# Altium schematic symbol library WCAP-AI3H.SchLib: 39 symbols
Pins are listed as number, name and electrical type; pins without a type are passive.

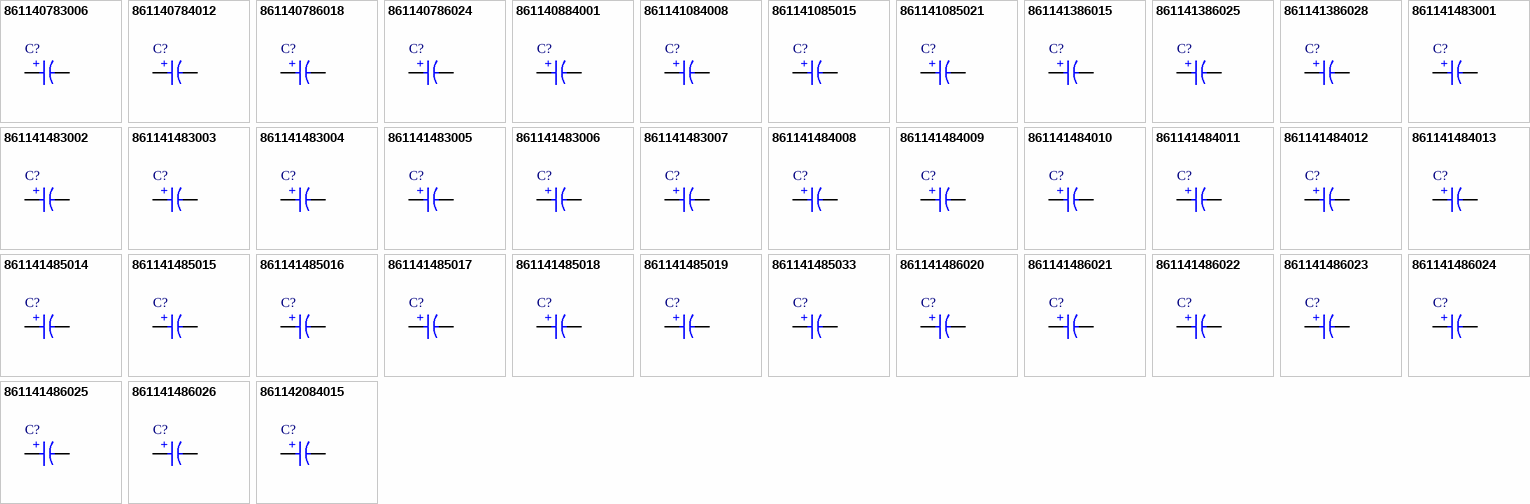
[diagram p0: symbols 861140783006 to 861142084015]

## 861140783006
designator C?, comment 2200uF  (value not drawn)
WCAP-AI3H Aluminum Electrolytic Capacitor, THT, 22mm x 35mm, 2200uF, 63V; Manufacturer Part Number: 861140783006; Manufacturer: Wurth Elektronik; Dissipation Factor: 20%; Endurance: 3000h; Leakage Current: 1117uA; Ripple Current: 1830mA; Category: Aluminum Electrolytic Capacitors; Match Code: WCAP-AI3H; ComponentLink1Description: Website Link; ComponentLink1URL: https://www.we-online.com; ComponentLink2Description: Datasheet Link; ComponentLink2URL: https://www.we-online.com/components/products/datasheet/861140783006; Mount: Through Hole; Operating Temperature Min: -40degC; Operating Temperature Max: 105degC; Packaging: Tray; Height: 35mm; Diameter: 22mm; Capacitance: 2200uF; Lead Pitch: 10mm; Rated Voltage (DC): 63V
footprint WCAP-AI3H_D22H35
simulation model 861140783006_2.2mF
pins: 1 P, 2 N
text: +

## 861140784012
designator C?, comment 3300uF  (value not drawn)
WCAP-AI3H Aluminum Electrolytic Capacitor, THT, 25mm x 35mm, 3300uF, 63V; Manufacturer Part Number: 861140784012; Manufacturer: Wurth Elektronik; Dissipation Factor: 20%; Endurance: 3000h; Leakage Current: 1368uA; Ripple Current: 2330mA; Category: Aluminum Electrolytic Capacitors; Match Code: WCAP-AI3H; ComponentLink1Description: Website Link; ComponentLink1URL: https://www.we-online.com; ComponentLink2Description: Datasheet Link; ComponentLink2URL: https://www.we-online.com/components/products/datasheet/861140784012; Mount: Through Hole; Operating Temperature Min: -40degC; Operating Temperature Max: 105degC; Packaging: Tray; Height: 35mm; Diameter: 25mm; Capacitance: 3300uF; Lead Pitch: 10mm; Rated Voltage (DC): 63V
footprint WCAP-AI3H_D25H35
simulation model 861140784012_3.3mF
pins: 1 P, 2 N
text: +

## 861140786018
designator C?, comment 4700uF  (value not drawn)
WCAP-AI3H Aluminum Electrolytic Capacitor, THT, 35mm x 30mm, 4700uF, 63V; Manufacturer Part Number: 861140786018; Manufacturer: Wurth Elektronik; Dissipation Factor: 30%; Endurance: 3000h; Leakage Current: 1632uA; Ripple Current: 3050mA; Category: Aluminum Electrolytic Capacitors; Match Code: WCAP-AI3H; ComponentLink1Description: Website Link; ComponentLink1URL: https://www.we-online.com; ComponentLink2Description: Datasheet Link; ComponentLink2URL: https://www.we-online.com/components/products/datasheet/861140786018; Mount: Through Hole; Operating Temperature Min: -40degC; Operating Temperature Max: 105degC; Packaging: Tray; Height: 30mm; Diameter: 35mm; Capacitance: 4700uF; Lead Pitch: 10mm; Rated Voltage (DC): 63V
footprint WCAP-AI3H_D35H30
simulation model 861140786018_4.7mF
pins: 1 P, 2 N
text: +

## 861140786024
designator C?, comment 10000uF  (value not drawn)
WCAP-AI3H Aluminum Electrolytic Capacitor, THT, 35mm x 52mm, 10000uF, 63V; Manufacturer Part Number: 861140786024; Manufacturer: Wurth Elektronik; Dissipation Factor: 30%; Endurance: 3000h; Leakage Current: 2381uA; Ripple Current: 4690mA; Category: Aluminum Electrolytic Capacitors; Match Code: WCAP-AI3H; ComponentLink1Description: Website Link; ComponentLink1URL: https://www.we-online.com; ComponentLink2Description: Datasheet Link; ComponentLink2URL: https://www.we-online.com/components/products/datasheet/861140786024; Mount: Through Hole; Operating Temperature Min: -40degC; Operating Temperature Max: 105degC; Packaging: Tray; Height: 52mm; Diameter: 35mm; Capacitance: 10000uF; Lead Pitch: 10mm; Rated Voltage (DC): 63V
footprint WCAP-AI3H_D35H52
simulation model 861140786024_10mF
pins: 1 P, 2 N
text: +

## 861140884001
designator C?, comment 2200uF  (value not drawn)
WCAP-AI3H Aluminum Electrolytic Capacitor, THT, 25mm x 51mm, 2200uF, 100V; Manufacturer Part Number: 861140884001; Manufacturer: Wurth Elektronik; Dissipation Factor: 20%; Endurance: 3000h; Leakage Current: 1407uA; Ripple Current: 2650mA; Category: Aluminum Electrolytic Capacitors; Match Code: WCAP-AI3H; ComponentLink1Description: Website Link; ComponentLink1URL: https://www.we-online.com; ComponentLink2Description: Datasheet Link; ComponentLink2URL: https://www.we-online.com/components/products/datasheet/861140884001; Mount: Through Hole; Operating Temperature Min: -40degC; Operating Temperature Max: 105degC; Packaging: Tray; Height: 51mm; Diameter: 25mm; Capacitance: 2200uF; Lead Pitch: 10mm; Rated Voltage (DC): 100V
footprint WCAP-AI3H_D25H51
simulation model 861140884001_2.2mF
pins: 1 P, 2 N
text: +

## 861141084008
designator C?, comment 470uF  (value not drawn)
WCAP-AI3H Aluminum Electrolytic Capacitor, THT, 25mm x 30mm, 470uF, 200V; Manufacturer Part Number: 861141084008; Manufacturer: Wurth Elektronik; Dissipation Factor: 15%; Endurance: 3000h; Leakage Current: 920uA; Ripple Current: 1580mA; Category: Aluminum Electrolytic Capacitors; Match Code: WCAP-AI3H; ComponentLink1Description: Website Link; ComponentLink1URL: https://www.we-online.com; ComponentLink2Description: Datasheet Link; ComponentLink2URL: https://www.we-online.com/components/products/datasheet/861141084008; Mount: Through Hole; Operating Temperature Min: -40degC; Operating Temperature Max: 105degC; Packaging: Tray; Height: 30mm; Diameter: 25mm; Capacitance: 470uF; Lead Pitch: 10mm; Rated Voltage (DC): 200V
footprint WCAP-AI3H_D25H30
simulation model 861141084008_470uF
pins: 1 P, 2 N
text: +

## 861141085015
designator C?, comment 680uF  (value not drawn)
WCAP-AI3H Aluminum Electrolytic Capacitor, THT, 30mm x 30mm, 680uF, 200V; Manufacturer Part Number: 861141085015; Manufacturer: Wurth Elektronik; Dissipation Factor: 15%; Endurance: 3000h; Leakage Current: 1106uA; Ripple Current: 2150mA; Category: Aluminum Electrolytic Capacitors; Match Code: WCAP-AI3H; ComponentLink1Description: Website Link; ComponentLink1URL: https://www.we-online.com; ComponentLink2Description: Datasheet Link; ComponentLink2URL: https://www.we-online.com/components/products/datasheet/861141085015; Mount: Through Hole; Operating Temperature Min: -25degC; Operating Temperature Max: 105degC; Packaging: Tray; Height: 30mm; Diameter: 30mm; Capacitance: 680uF; Lead Pitch: 10mm; Rated Voltage (DC): 200V
footprint WCAP-AI3H_D30H30
simulation model 861141085015_680uF
pins: 1 P, 2 N
text: +

## 861141085021
designator C?, comment 1000uF  (value not drawn)
WCAP-AI3H Aluminum Electrolytic Capacitor, THT, 30mm x 35mm, 1000uF, 200V; Manufacturer Part Number: 861141085021; Manufacturer: Wurth Elektronik; Dissipation Factor: 15%; Endurance: 3000h; Leakage Current: 1342uA; Ripple Current: 2300mA; Category: Aluminum Electrolytic Capacitors; Match Code: WCAP-AI3H; ComponentLink1Description: Website Link; ComponentLink1URL: https://www.we-online.com; ComponentLink2Description: Datasheet Link; ComponentLink2URL: https://www.we-online.com/components/products/datasheet/861141085021; Mount: Through Hole; Operating Temperature Min: -40degC; Operating Temperature Max: 105degC; Packaging: Tray; Height: 35mm; Diameter: 30mm; Capacitance: 1000uF; Lead Pitch: 10mm; Rated Voltage (DC): 200V
footprint WCAP-AI3H_D30H35
simulation model 861141085021_1mF
pins: 1 P, 2 N
text: +

## 861141386015
designator C?, comment 220uF  (value not drawn)
WCAP-AI3H Aluminum Electrolytic Capacitor, THT, 35mm x 25mm, 220uF, 400V; Manufacturer Part Number: 861141386015; Manufacturer: Wurth Elektronik; Dissipation Factor: 20%; Endurance: 3000h; Leakage Current: 890uA; Ripple Current: 1160mA; Category: Aluminum Electrolytic Capacitors; Match Code: WCAP-AI3H; ComponentLink1Description: Website Link; ComponentLink1URL: https://www.we-online.com; ComponentLink2Description: Datasheet Link; ComponentLink2URL: https://www.we-online.com/components/products/datasheet/861141386015; Mount: Through Hole; Operating Temperature Min: -25degC; Operating Temperature Max: 105degC; Packaging: Tray; Height: 25mm; Diameter: 35mm; Capacitance: 220uF; Lead Pitch: 10mm; Rated Voltage (DC): 400V
footprint WCAP-AI3H_D35H25
simulation model 861141386015_220uF
pins: 1 P, 2 N
text: +

## 861141386025
designator C?, comment 470uF  (value not drawn)
WCAP-AI3H Aluminum Electrolytic Capacitor, THT, 35mm x 40mm, 470uF, 400V; Manufacturer Part Number: 861141386025; Manufacturer: Wurth Elektronik; Dissipation Factor: 20%; Endurance: 3000h; Leakage Current: 1301uA; Ripple Current: 2010mA; Category: Aluminum Electrolytic Capacitors; Match Code: WCAP-AI3H; ComponentLink1Description: Website Link; ComponentLink1URL: https://www.we-online.com; ComponentLink2Description: Datasheet Link; ComponentLink2URL: https://www.we-online.com/components/products/datasheet/861141386025; Mount: Through Hole; Operating Temperature Min: -25degC; Operating Temperature Max: 105degC; Packaging: Tray; Height: 40mm; Diameter: 35mm; Capacitance: 470uF; Lead Pitch: 10mm; Rated Voltage (DC): 400V
footprint WCAP-AI3H_D35H40
simulation model 861141386025_470uF
pins: 1 P, 2 N
text: +

## 861141386028
designator C?, comment 1000uF  (value not drawn)
WCAP-AI3H Aluminum Electrolytic Capacitor, THT, 35mm x 65mm, 1000uF, 400V; Manufacturer Part Number: 861141386028; Manufacturer: Wurth Elektronik; Dissipation Factor: 20%; Endurance: 3000h; Leakage Current: 1897uA; Ripple Current: 3110mA; Category: Aluminum Electrolytic Capacitors; Match Code: WCAP-AI3H; ComponentLink1Description: Website Link; ComponentLink1URL: https://www.we-online.com; ComponentLink2Description: Datasheet Link; ComponentLink2URL: https://www.we-online.com/components/products/datasheet/861141386028; Mount: Through Hole; Operating Temperature Min: -25degC; Operating Temperature Max: 105degC; Packaging: Tray; Height: 65mm; Diameter: 35mm; Capacitance: 1000uF; Lead Pitch: 10mm; Rated Voltage (DC): 400V
footprint WCAP-AI3H_D35H65
simulation model 861141386028_1mF
pins: 1 P, 2 N
text: +

## 861141483001
designator C?, comment 68uF  (value not drawn)
WCAP-AI3H Aluminum Electrolytic Capacitor, THT, 22mm x 25mm, 68uF, 450V; Manufacturer Part Number: 861141483001; Manufacturer: Wurth Elektronik; Dissipation Factor: 20%; Endurance: 3000h; Leakage Current: 525uA; Ripple Current: 520mA; Category: Aluminum Electrolytic Capacitors; Match Code: WCAP-AI3H; ComponentLink1Description: Website Link; ComponentLink1URL: https://www.we-online.com; ComponentLink2Description: Datasheet Link; ComponentLink2URL: https://www.we-online.com/components/products/datasheet/861141483001; Mount: Through Hole; Operating Temperature Min: -25degC; Operating Temperature Max: 105degC; Packaging: Tray; Height: 25mm; Diameter: 22mm; Capacitance: 68uF; Lead Pitch: 10mm; Rated Voltage (DC): 450V
footprint WCAP-AI3H_D22H25
simulation model 861141483001_68uF
pins: 1 P, 2 N
text: +

## 861141483002
designator C?, comment 82uF  (value not drawn)
WCAP-AI3H Aluminum Electrolytic Capacitor, THT, 22mm x 30mm, 82uF, 450V; Manufacturer Part Number: 861141483002; Manufacturer: Wurth Elektronik; Dissipation Factor: 20%; Endurance: 3000h; Leakage Current: 577uA; Ripple Current: 640mA; Category: Aluminum Electrolytic Capacitors; Match Code: WCAP-AI3H; ComponentLink1Description: Website Link; ComponentLink1URL: https://www.we-online.com; ComponentLink2Description: Datasheet Link; ComponentLink2URL: https://www.we-online.com/components/products/datasheet/861141483002; Mount: Through Hole; Operating Temperature Min: -25degC; Operating Temperature Max: 105degC; Packaging: Tray; Height: 30mm; Diameter: 22mm; Capacitance: 82uF; Lead Pitch: 10mm; Rated Voltage (DC): 450V
footprint WCAP-AI3H_D22H30
simulation model 861141483002_82uF
pins: 1 P, 2 N
text: +

## 861141483003
designator C?, comment 100uF  (value not drawn)
WCAP-AI3H Aluminum Electrolytic Capacitor, THT, 22mm x 35mm, 100uF, 450V; Manufacturer Part Number: 861141483003; Manufacturer: Wurth Elektronik; Dissipation Factor: 20%; Endurance: 3000h; Leakage Current: 636uA; Ripple Current: 730mA; Category: Aluminum Electrolytic Capacitors; Match Code: WCAP-AI3H; ComponentLink1Description: Website Link; ComponentLink1URL: https://www.we-online.com; ComponentLink2Description: Datasheet Link; ComponentLink2URL: https://www.we-online.com/components/products/datasheet/861141483003; Mount: Through Hole; Operating Temperature Min: -25degC; Operating Temperature Max: 105degC; Packaging: Tray; Height: 35mm; Diameter: 22mm; Capacitance: 100uF; Lead Pitch: 10mm; Rated Voltage (DC): 450V
footprint WCAP-AI3H_D22H35
simulation model 861141483003_100uF
pins: 1 P, 2 N
text: +

## 861141483004
designator C?, comment 120uF  (value not drawn)
WCAP-AI3H Aluminum Electrolytic Capacitor, THT, 22mm x 40mm, 120uF, 450V; Manufacturer Part Number: 861141483004; Manufacturer: Wurth Elektronik; Dissipation Factor: 20%; Endurance: 3000h; Leakage Current: 697uA; Ripple Current: 840mA; Category: Aluminum Electrolytic Capacitors; Match Code: WCAP-AI3H; ComponentLink1Description: Website Link; ComponentLink1URL: https://www.we-online.com; ComponentLink2Description: Datasheet Link; ComponentLink2URL: https://www.we-online.com/components/products/datasheet/861141483004; Mount: Through Hole; Operating Temperature Min: -25degC; Operating Temperature Max: 105degC; Packaging: Tray; Height: 40mm; Diameter: 22mm; Capacitance: 120uF; Lead Pitch: 10mm; Rated Voltage (DC): 450V
footprint WCAP-AI3H_D22H40
simulation model 861141483004_120uF
pins: 1 P, 2 N
text: +

## 861141483005
designator C?, comment 150uF  (value not drawn)
WCAP-AI3H Aluminum Electrolytic Capacitor, THT, 22mm x 45mm, 150uF, 450V; Manufacturer Part Number: 861141483005; Manufacturer: Wurth Elektronik; Dissipation Factor: 20%; Endurance: 3000h; Leakage Current: 779uA; Ripple Current: 990mA; Category: Aluminum Electrolytic Capacitors; Match Code: WCAP-AI3H; ComponentLink1Description: Website Link; ComponentLink1URL: https://www.we-online.com; ComponentLink2Description: Datasheet Link; ComponentLink2URL: https://www.we-online.com/components/products/datasheet/861141483005; Mount: Through Hole; Operating Temperature Min: -25degC; Operating Temperature Max: 105degC; Packaging: Tray; Height: 45mm; Diameter: 22mm; Capacitance: 150uF; Lead Pitch: 10mm; Rated Voltage (DC): 450V
footprint WCAP-AI3H_D22H45
simulation model 861141483005_150uF
pins: 1 P, 2 N
text: +

## 861141483006
designator C?, comment 180uF  (value not drawn)
WCAP-AI3H Aluminum Electrolytic Capacitor, THT, 22mm x 50mm, 180uF, 450V; Manufacturer Part Number: 861141483006; Manufacturer: Wurth Elektronik; Dissipation Factor: 20%; Endurance: 3000h; Leakage Current: 854uA; Ripple Current: 1160mA; Category: Aluminum Electrolytic Capacitors; Match Code: WCAP-AI3H; ComponentLink1Description: Website Link; ComponentLink1URL: https://www.we-online.com; ComponentLink2Description: Datasheet Link; ComponentLink2URL: https://www.we-online.com/components/products/datasheet/861141483006; Mount: Through Hole; Operating Temperature Min: -25degC; Operating Temperature Max: 105degC; Packaging: Tray; Height: 50mm; Diameter: 22mm; Capacitance: 180uF; Lead Pitch: 10mm; Rated Voltage (DC): 450V
footprint WCAP-AI3H_D22H50
simulation model 861141483006_180uF
pins: 1 P, 2 N
text: +

## 861141483007
designator C?, comment 220uF  (value not drawn)
WCAP-AI3H Aluminum Electrolytic Capacitor, THT, 22mm x 50mm, 220uF, 450V; Manufacturer Part Number: 861141483007; Manufacturer: Wurth Elektronik; Dissipation Factor: 20%; Endurance: 3000h; Leakage Current: 945uA; Ripple Current: 1160mA; Category: Aluminum Electrolytic Capacitors; Match Code: WCAP-AI3H; ComponentLink1Description: Website Link; ComponentLink1URL: https://www.we-online.com; ComponentLink2Description: Datasheet Link; ComponentLink2URL: https://www.we-online.com/components/products/datasheet/861141483007; Mount: Through Hole; Operating Temperature Min: -25degC; Operating Temperature Max: 105degC; Packaging: Tray; Height: 50mm; Diameter: 22mm; Capacitance: 220uF; Lead Pitch: 10mm; Rated Voltage (DC): 450V
footprint WCAP-AI3H_D22H50
simulation model 861141483007_220uF
pins: 1 P, 2 N
text: +

## 861141484008
designator C?, comment 82uF  (value not drawn)
WCAP-AI3H Aluminum Electrolytic Capacitor, THT, 25mm x 25mm, 82uF, 450V; Manufacturer Part Number: 861141484008; Manufacturer: Wurth Elektronik; Dissipation Factor: 20%; Endurance: 3000h; Leakage Current: 576uA; Ripple Current: 640mA; Category: Aluminum Electrolytic Capacitors; Match Code: WCAP-AI3H; ComponentLink1Description: Website Link; ComponentLink1URL: https://www.we-online.com; ComponentLink2Description: Datasheet Link; ComponentLink2URL: https://www.we-online.com/components/products/datasheet/861141484008; Mount: Through Hole; Operating Temperature Min: -25degC; Operating Temperature Max: 105degC; Packaging: Tray; Height: 25mm; Diameter: 25mm; Capacitance: 82uF; Lead Pitch: 10mm; Rated Voltage (DC): 450V
footprint WCAP-AI3H_D25H25
simulation model 861141484008_82uF
pins: 1 P, 2 N
text: +

## 861141484009
designator C?, comment 100uF  (value not drawn)
WCAP-AI3H Aluminum Electrolytic Capacitor, THT, 25mm x 30mm, 100uF, 450V; Manufacturer Part Number: 861141484009; Manufacturer: Wurth Elektronik; Dissipation Factor: 20%; Endurance: 3000h; Leakage Current: 636uA; Ripple Current: 760mA; Category: Aluminum Electrolytic Capacitors; Match Code: WCAP-AI3H; ComponentLink1Description: Website Link; ComponentLink1URL: https://www.we-online.com; ComponentLink2Description: Datasheet Link; ComponentLink2URL: https://www.we-online.com/components/products/datasheet/861141484009; Mount: Through Hole; Operating Temperature Min: -25degC; Operating Temperature Max: 105degC; Packaging: Tray; Height: 30mm; Diameter: 25mm; Capacitance: 100uF; Lead Pitch: 10mm; Rated Voltage (DC): 450V
footprint WCAP-AI3H_D25H30
simulation model 861141484009_100uF
pins: 1 P, 2 N
text: +

## 861141484010
designator C?, comment 120uF  (value not drawn)
WCAP-AI3H Aluminum Electrolytic Capacitor, THT, 25mm x 30mm, 120uF, 450V; Manufacturer Part Number: 861141484010; Manufacturer: Wurth Elektronik; Dissipation Factor: 20%; Endurance: 3000h; Leakage Current: 697uA; Ripple Current: 840mA; Category: Aluminum Electrolytic Capacitors; Match Code: WCAP-AI3H; ComponentLink1Description: Website Link; ComponentLink1URL: https://www.we-online.com; ComponentLink2Description: Datasheet Link; ComponentLink2URL: https://www.we-online.com/components/products/datasheet/861141484010; Mount: Through Hole; Operating Temperature Min: -25degC; Operating Temperature Max: 105degC; Packaging: Tray; Height: 30mm; Diameter: 25mm; Capacitance: 120uF; Lead Pitch: 10mm; Rated Voltage (DC): 450V
footprint WCAP-AI3H_D25H30
simulation model 861141484010_120uF
pins: 1 P, 2 N
text: +

## 861141484011
designator C?, comment 150uF  (value not drawn)
WCAP-AI3H Aluminum Electrolytic Capacitor, THT, 25mm x 35mm, 150uF, 450V; Manufacturer Part Number: 861141484011; Manufacturer: Wurth Elektronik; Dissipation Factor: 20%; Endurance: 3000h; Leakage Current: 779uA; Ripple Current: 990mA; Category: Aluminum Electrolytic Capacitors; Match Code: WCAP-AI3H; ComponentLink1Description: Website Link; ComponentLink1URL: https://www.we-online.com; ComponentLink2Description: Datasheet Link; ComponentLink2URL: https://www.we-online.com/components/products/datasheet/861141484011; Mount: Through Hole; Operating Temperature Min: -25degC; Operating Temperature Max: 105degC; Packaging: Tray; Height: 35mm; Diameter: 25mm; Capacitance: 150uF; Lead Pitch: 10mm; Rated Voltage (DC): 450V
footprint WCAP-AI3H_D25H35
simulation model 861141484011_150uF
pins: 1 P, 2 N
text: +

## 861141484012
designator C?, comment 180uF  (value not drawn)
WCAP-AI3H Aluminum Electrolytic Capacitor, THT, 25mm x 40mm, 180uF, 450V; Manufacturer Part Number: 861141484012; Manufacturer: Wurth Elektronik; Dissipation Factor: 20%; Endurance: 3000h; Leakage Current: 854uA; Ripple Current: 1110mA; Category: Aluminum Electrolytic Capacitors; Match Code: WCAP-AI3H; ComponentLink1Description: Website Link; ComponentLink1URL: https://www.we-online.com; ComponentLink2Description: Datasheet Link; ComponentLink2URL: https://www.we-online.com/components/products/datasheet/861141484012; Mount: Through Hole; Operating Temperature Min: -25degC; Operating Temperature Max: 105degC; Packaging: Tray; Height: 40mm; Diameter: 25mm; Capacitance: 180uF; Lead Pitch: 10mm; Rated Voltage (DC): 450V
footprint WCAP-AI3H_D25H40
simulation model 861141484012_180uF
pins: 1 P, 2 N
text: +

## 861141484013
designator C?, comment 220uF  (value not drawn)
WCAP-AI3H Aluminum Electrolytic Capacitor, THT, 25mm x 45mm, 220uF, 450V; Manufacturer Part Number: 861141484013; Manufacturer: Wurth Elektronik; Dissipation Factor: 20%; Endurance: 3000h; Leakage Current: 945uA; Ripple Current: 1190mA; Category: Aluminum Electrolytic Capacitors; Match Code: WCAP-AI3H; ComponentLink1Description: Website Link; ComponentLink1URL: https://www.we-online.com; ComponentLink2Description: Datasheet Link; ComponentLink2URL: https://www.we-online.com/components/products/datasheet/861141484013; Mount: Through Hole; Operating Temperature Min: -25degC; Operating Temperature Max: 105degC; Packaging: Tray; Height: 45mm; Diameter: 25mm; Capacitance: 220uF; Lead Pitch: 10mm; Rated Voltage (DC): 450V
footprint WCAP-AI3H_D25H45
simulation model 861141484013_220uF
pins: 1 P, 2 N
text: +

## 861141485014
designator C?, comment 120uF  (value not drawn)
WCAP-AI3H Aluminum Electrolytic Capacitor, THT, 30mm x 26mm, 120uF, 450V; Manufacturer Part Number: 861141485014; Manufacturer: Wurth Elektronik; Dissipation Factor: 20%; Endurance: 3000h; Leakage Current: 697uA; Ripple Current: 860mA; Category: Aluminum Electrolytic Capacitors; Match Code: WCAP-AI3H; ComponentLink1Description: Website Link; ComponentLink1URL: https://www.we-online.com; ComponentLink2Description: Datasheet Link; ComponentLink2URL: https://www.we-online.com/components/products/datasheet/861141485014; Mount: Through Hole; Operating Temperature Min: -25degC; Operating Temperature Max: 105degC; Packaging: Tray; Height: 26mm; Diameter: 30mm; Capacitance: 120uF; Lead Pitch: 10mm; Rated Voltage (DC): 450V
footprint WCAP-AI3H_D30H26
simulation model 861141485014_120uF
pins: 1 P, 2 N
text: +

## 861141485015
designator C?, comment 150uF  (value not drawn)
WCAP-AI3H Aluminum Electrolytic Capacitor, THT, 30mm x 30mm, 150uF, 450V; Manufacturer Part Number: 861141485015; Manufacturer: Wurth Elektronik; Dissipation Factor: 20%; Endurance: 3000h; Leakage Current: 779uA; Ripple Current: 1010mA; Category: Aluminum Electrolytic Capacitors; Match Code: WCAP-AI3H; ComponentLink1Description: Website Link; ComponentLink1URL: https://www.we-online.com; ComponentLink2Description: Datasheet Link; ComponentLink2URL: https://www.we-online.com/components/products/datasheet/861141485015; Mount: Through Hole; Operating Temperature Min: -25degC; Operating Temperature Max: 105degC; Packaging: Tray; Height: 30mm; Diameter: 30mm; Capacitance: 150uF; Lead Pitch: 10mm; Rated Voltage (DC): 450V
footprint WCAP-AI3H_D30H30
simulation model 861141485015_150uF
pins: 1 P, 2 N
text: +

## 861141485016
designator C?, comment 180uF  (value not drawn)
WCAP-AI3H Aluminum Electrolytic Capacitor, THT, 30mm x 30mm, 180uF, 450V; Manufacturer Part Number: 861141485016; Manufacturer: Wurth Elektronik; Dissipation Factor: 20%; Endurance: 3000h; Leakage Current: 854uA; Ripple Current: 1120mA; Category: Aluminum Electrolytic Capacitors; Match Code: WCAP-AI3H; ComponentLink1Description: Website Link; ComponentLink1URL: https://www.we-online.com; ComponentLink2Description: Datasheet Link; ComponentLink2URL: https://www.we-online.com/components/products/datasheet/861141485016; Mount: Through Hole; Operating Temperature Min: -25degC; Operating Temperature Max: 105degC; Packaging: Tray; Height: 30mm; Diameter: 30mm; Capacitance: 180uF; Lead Pitch: 10mm; Rated Voltage (DC): 450V
footprint WCAP-AI3H_D30H30
simulation model 861141485016_180uF
pins: 1 P, 2 N
text: +

## 861141485017
designator C?, comment 220uF  (value not drawn)
WCAP-AI3H Aluminum Electrolytic Capacitor, THT, 30mm x 35mm, 220uF, 450V; Manufacturer Part Number: 861141485017; Manufacturer: Wurth Elektronik; Dissipation Factor: 20%; Endurance: 3000h; Leakage Current: 944uA; Ripple Current: 1190mA; Category: Aluminum Electrolytic Capacitors; Match Code: WCAP-AI3H; ComponentLink1Description: Website Link; ComponentLink1URL: https://www.we-online.com; ComponentLink2Description: Datasheet Link; ComponentLink2URL: https://www.we-online.com/components/products/datasheet/861141485017; Mount: Through Hole; Operating Temperature Min: -25degC; Operating Temperature Max: 105degC; Packaging: Tray; Height: 35mm; Diameter: 30mm; Capacitance: 220uF; Lead Pitch: 10mm; Rated Voltage (DC): 450V
footprint WCAP-AI3H_D30H35
simulation model 861141485017_220uF
pins: 1 P, 2 N
text: +

## 861141485018
designator C?, comment 270uF  (value not drawn)
WCAP-AI3H Aluminum Electrolytic Capacitor, THT, 30mm x 40mm, 270uF, 450V; Manufacturer Part Number: 861141485018; Manufacturer: Wurth Elektronik; Dissipation Factor: 20%; Endurance: 3000h; Leakage Current: 1046uA; Ripple Current: 1390mA; Category: Aluminum Electrolytic Capacitors; Match Code: WCAP-AI3H; ComponentLink1Description: Website Link; ComponentLink1URL: https://www.we-online.com; ComponentLink2Description: Datasheet Link; ComponentLink2URL: https://www.we-online.com/components/products/datasheet/861141485018; Mount: Through Hole; Operating Temperature Min: -25degC; Operating Temperature Max: 105degC; Packaging: Tray; Height: 40mm; Diameter: 30mm; Capacitance: 270uF; Lead Pitch: 10mm; Rated Voltage (DC): 450V
footprint WCAP-AI3H_D30H40
simulation model 861141485018_270uF
pins: 1 P, 2 N
text: +

## 861141485019
designator C?, comment 330uF  (value not drawn)
WCAP-AI3H Aluminum Electrolytic Capacitor, THT, 30mm x 50mm, 330uF, 450V; Manufacturer Part Number: 861141485019; Manufacturer: Wurth Elektronik; Dissipation Factor: 20%; Endurance: 3000h; Leakage Current: 1156uA; Ripple Current: 1690mA; Category: Aluminum Electrolytic Capacitors; Match Code: WCAP-AI3H; ComponentLink1Description: Website Link; ComponentLink1URL: https://www.we-online.com; ComponentLink2Description: Datasheet Link; ComponentLink2URL: https://www.we-online.com/components/products/datasheet/861141485019; Mount: Through Hole; Operating Temperature Min: -25degC; Operating Temperature Max: 105degC; Packaging: Tray; Height: 50mm; Diameter: 30mm; Capacitance: 330uF; Lead Pitch: 10mm; Rated Voltage (DC): 450V
footprint WCAP-AI3H_D30H50
simulation model 861141485019_330uF
pins: 1 P, 2 N
text: +

## 861141485033
designator C?, comment 470uF  (value not drawn)
WCAP-AI3H Aluminum Electrolytic Capacitor, THT, 30mm x 40mm, 470uF, 450V; Manufacturer Part Number: 861141485033; Manufacturer: Wurth Elektronik; Dissipation Factor: 20%; Endurance: 4000h; Leakage Current: 1380uA; Ripple Current: 1940mA; Category: Aluminum Electrolytic Capacitors; Match Code: WCAP-AI3H; ComponentLink1Description: Website Link; ComponentLink1URL: https://www.we-online.com; ComponentLink2Description: Datasheet Link; ComponentLink2URL: https://www.we-online.com/components/products/datasheet/861141485033; Mount: Through Hole; Operating Temperature Min: -40degC; Operating Temperature Max: 105degC; Packaging: Tray; Height: 40mm; Diameter: 30mm; Capacitance: 470uF; Lead Pitch: 10mm; Rated Voltage (DC): 450V
footprint WCAP-AI3H_D30H40
simulation model 861141485033_470uF
pins: 1 P, 2 N
text: +

## 861141486020
designator C?, comment 220uF  (value not drawn)
WCAP-AI3H Aluminum Electrolytic Capacitor, THT, 35mm x 30mm, 220uF, 450V; Manufacturer Part Number: 861141486020; Manufacturer: Wurth Elektronik; Dissipation Factor: 20%; Endurance: 3000h; Leakage Current: 944uA; Ripple Current: 1250mA; Category: Aluminum Electrolytic Capacitors; Match Code: WCAP-AI3H; ComponentLink1Description: Website Link; ComponentLink1URL: https://www.we-online.com; ComponentLink2Description: Datasheet Link; ComponentLink2URL: https://www.we-online.com/components/products/datasheet/861141486020; Mount: Through Hole; Operating Temperature Min: -25degC; Operating Temperature Max: 105degC; Packaging: Tray; Height: 30mm; Diameter: 35mm; Capacitance: 220uF; Lead Pitch: 10mm; Rated Voltage (DC): 450V
footprint WCAP-AI3H_D35H30
simulation model 861141486020_220uF
pins: 1 P, 2 N
text: +

## 861141486021
designator C?, comment 270uF  (value not drawn)
WCAP-AI3H Aluminum Electrolytic Capacitor, THT, 35mm x 35mm, 270uF, 450V; Manufacturer Part Number: 861141486021; Manufacturer: Wurth Elektronik; Dissipation Factor: 20%; Endurance: 3000h; Leakage Current: 1046uA; Ripple Current: 1470mA; Category: Aluminum Electrolytic Capacitors; Match Code: WCAP-AI3H; ComponentLink1Description: Website Link; ComponentLink1URL: https://www.we-online.com; ComponentLink2Description: Datasheet Link; ComponentLink2URL: https://www.we-online.com/components/products/datasheet/861141486021; Mount: Through Hole; Operating Temperature Min: -25degC; Operating Temperature Max: 105degC; Packaging: Tray; Height: 35mm; Diameter: 35mm; Capacitance: 270uF; Lead Pitch: 10mm; Rated Voltage (DC): 450V
footprint WCAP-AI3H_D35H35
simulation model 861141486021_270uF
pins: 1 P, 2 N
text: +

## 861141486022
designator C?, comment 330uF  (value not drawn)
WCAP-AI3H Aluminum Electrolytic Capacitor, THT, 35mm x 40mm, 330uF, 450V; Manufacturer Part Number: 861141486022; Manufacturer: Wurth Elektronik; Dissipation Factor: 20%; Endurance: 3000h; Leakage Current: 1156uA; Ripple Current: 1700mA; Category: Aluminum Electrolytic Capacitors; Match Code: WCAP-AI3H; ComponentLink1Description: Website Link; ComponentLink1URL: https://www.we-online.com; ComponentLink2Description: Datasheet Link; ComponentLink2URL: https://www.we-online.com/components/products/datasheet/861141486022; Mount: Through Hole; Operating Temperature Min: -25degC; Operating Temperature Max: 105degC; Packaging: Tray; Height: 40mm; Diameter: 35mm; Capacitance: 330uF; Lead Pitch: 10mm; Rated Voltage (DC): 450V
footprint WCAP-AI3H_D35H40
simulation model 861141486022_330uF
pins: 1 P, 2 N
text: +

## 861141486023
designator C?, comment 390uF  (value not drawn)
WCAP-AI3H Aluminum Electrolytic Capacitor, THT, 35mm x 40mm, 390uF, 450V; Manufacturer Part Number: 861141486023; Manufacturer: Wurth Elektronik; Dissipation Factor: 20%; Endurance: 3000h; Leakage Current: 1257uA; Ripple Current: 1860mA; Category: Aluminum Electrolytic Capacitors; Match Code: WCAP-AI3H; ComponentLink1Description: Website Link; ComponentLink1URL: https://www.we-online.com; ComponentLink2Description: Datasheet Link; ComponentLink2URL: https://www.we-online.com/components/products/datasheet/861141486023; Mount: Through Hole; Operating Temperature Min: -25degC; Operating Temperature Max: 105degC; Packaging: Tray; Height: 40mm; Diameter: 35mm; Capacitance: 390uF; Lead Pitch: 10mm; Rated Voltage (DC): 450V
footprint WCAP-AI3H_D35H40
simulation model 861141486023_390uF
pins: 1 P, 2 N
text: +

## 861141486024
designator C?, comment 470uF  (value not drawn)
WCAP-AI3H Aluminum Electrolytic Capacitor, THT, 35mm x 50mm, 470uF, 450V; Manufacturer Part Number: 861141486024; Manufacturer: Wurth Elektronik; Dissipation Factor: 20%; Endurance: 3000h; Leakage Current: 1380uA; Ripple Current: 2210mA; Category: Aluminum Electrolytic Capacitors; Match Code: WCAP-AI3H; ComponentLink1Description: Website Link; ComponentLink1URL: https://www.we-online.com; ComponentLink2Description: Datasheet Link; ComponentLink2URL: https://www.we-online.com/components/products/datasheet/861141486024; Mount: Through Hole; Operating Temperature Min: -25degC; Operating Temperature Max: 105degC; Packaging: Tray; Height: 50mm; Diameter: 35mm; Capacitance: 470uF; Lead Pitch: 10mm; Rated Voltage (DC): 450V
footprint WCAP-AI3H_D35H50
simulation model 861141486024_470uF
pins: 1 P, 2 N
text: +

## 861141486025
designator C?, comment 560uF  (value not drawn)
WCAP-AI3H Aluminum Electrolytic Capacitor, THT, 35mm x 55mm, 560uF, 450V; Manufacturer Part Number: 861141486025; Manufacturer: Wurth Elektronik; Dissipation Factor: 20%; Endurance: 3000h; Leakage Current: 1506uA; Ripple Current: 2510mA; Category: Aluminum Electrolytic Capacitors; Match Code: WCAP-AI3H; ComponentLink1Description: Website Link; ComponentLink1URL: https://www.we-online.com; ComponentLink2Description: Datasheet Link; ComponentLink2URL: https://www.we-online.com/components/products/datasheet/861141486025; Mount: Through Hole; Operating Temperature Min: -25degC; Operating Temperature Max: 105degC; Packaging: Tray; Height: 55mm; Diameter: 35mm; Capacitance: 560uF; Lead Pitch: 10mm; Rated Voltage (DC): 450V
footprint WCAP-AI3H_D35H55
simulation model 861141486025_560uF
pins: 1 P, 2 N
text: +

## 861141486026
designator C?, comment 680uF  (value not drawn)
WCAP-AI3H Aluminum Electrolytic Capacitor, THT, 35mm x 55mm, 680uF, 450V; Manufacturer Part Number: 861141486026; Manufacturer: Wurth Elektronik; Dissipation Factor: 20%; Endurance: 3000h; Leakage Current: 1660uA; Ripple Current: 2760mA; Category: Aluminum Electrolytic Capacitors; Match Code: WCAP-AI3H; ComponentLink1Description: Website Link; ComponentLink1URL: https://www.we-online.com; ComponentLink2Description: Datasheet Link; ComponentLink2URL: https://www.we-online.com/components/products/datasheet/861141486026; Mount: Through Hole; Operating Temperature Min: -25degC; Operating Temperature Max: 105degC; Packaging: Tray; Height: 55mm; Diameter: 35mm; Capacitance: 680uF; Lead Pitch: 10mm; Rated Voltage (DC): 450V
footprint WCAP-AI3H_D35H55
simulation model 861141486026_680uF
pins: 1 P, 2 N
text: +

## 861142084015
designator C?, comment 180uF  (value not drawn)
WCAP-AI3H Aluminum Electrolytic Capacitor, THT, 25mm x 30mm, 180uF, 500V; Manufacturer Part Number: 861142084015; Manufacturer: Wurth Elektronik; Dissipation Factor: 20%; Endurance: 5000h; Leakage Current: 900uA; Ripple Current: 1160mA; Category: Aluminum Electrolytic Capacitors; Match Code: WCAP-AI3H; ComponentLink1Description: Website Link; ComponentLink1URL: https://www.we-online.com; ComponentLink2Description: Datasheet Link; ComponentLink2URL: https://www.we-online.com/components/products/datasheet/861142084015; Mount: Through Hole; Operating Temperature Min: -25degC; Operating Temperature Max: 105degC; Packaging: Tray; Height: 30mm; Diameter: 25mm; Capacitance: 180uF; Lead Pitch: 10mm; Rated Voltage (DC): 500V
footprint WCAP-AI3H_D25H30
pins: 1 P, 2 N
text: +